# Altium schematic symbol library 1k_0805W8F1001T5E1.SCHLIB: 1 symbol
Pins are listed as number, name and electrical type; pins without a type are passive.

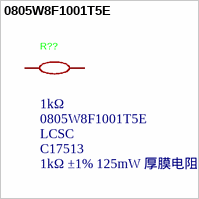
[diagram p0: symbol 0805W8F1001T5E]

## 0805W8F1001T5E
designator R??, comment LCSC Part Name: 1kΩ ±1% 125mW 厚膜电阻  Supplier Part: C17513  Manufacturer Part: 0805W8F1001T5E  Supplier: LCSC  (hidden comment: 1kΩ)
Manufacturer: UNI-ROYAL(厚声); Add into BOM: yes; Tolerance: ±1%; Temperature Coefficient: ±100ppm/℃; Symbol: 0805W8F1001T5E; Device: 0805W8F1001T5E; Supplier Footprint: 0805; JLCPCB Part Class: Basic Part; Datasheet: https://atta.szlcsc.com/upload/public/pdf/source/20200306/C422600_1E6D84923E4A46A82E41ADD87F860B5C.pdf; Convert to PCB: yes; Type: Thick Film Resistors; Operating Temperature Range: -55℃~+155℃; Value: 1kΩ
footprint R0805
3D model R0805_L2.0-W1.3-H0.6
pins: 1, 2